# EAGLE library part LPC1768 (library MyLib)
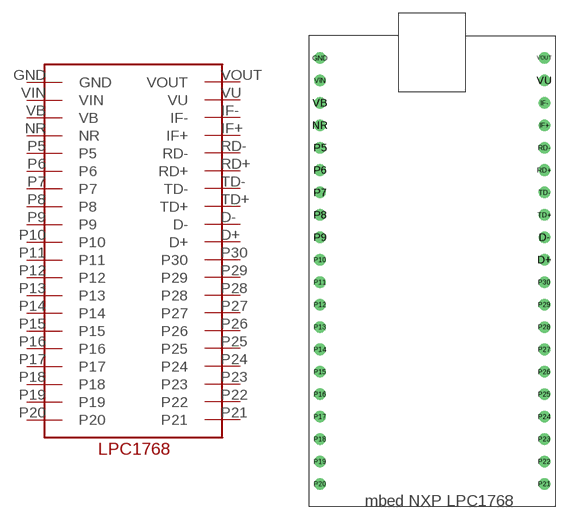
[diagram p4: symbol with the pads of LPC1768; footprint LPC1768]

Designator prefix -

## LPC1768  [LPC1768]
D+  D+
D-  D-
GND  GND
IF+  IF+
IF-  IF-
NR  NR
P5  P5
P6  P6
P7  P7
P8  P8
P9  P9
P10  P10
P11  P11
P12  P12
P13  P13
P14  P14
P15  P15
P16  P16
P17  P17
P18  P18
P19  P19
P20  P20
P21  P21
P22  P22
P23  P23
P24  P24
P25  P25
P26  P26
P27  P27
P28  P28
P29  P29
P30  P30
RD+  RD+
RD-  RD-
TD+  TD+
TD-  TD-
VB  VB
VIN  VIN
VOUT  VOUT
VU  VU

## Footprint LPC1768 (pad centres in mm)
drill 0.8: D+ 12.7,1.27; D- 12.7,3.81; GND -12.7,24.13; IF+ 12.7,16.51; IF- 12.7,19.05; NR -12.7,16.51; P5 -12.7,13.97; P6 -12.7,11.43; P7 -12.7,8.89; P8 -12.7,6.35; P9 -12.7,3.81; P10 -12.7,1.27; P11 -12.7,-1.27; P12 -12.7,-3.81; P13 -12.7,-6.35; P14 -12.7,-8.89; P15 -12.7,-11.43; P16 -12.7,-13.97; P17 -12.7,-16.51; P18 -12.7,-19.05; P19 -12.7,-21.59; P20 -12.7,-24.13; P21 12.7,-24.13; P22 12.7,-21.59; P23 12.7,-19.05; P24 12.7,-16.51; P25 12.7,-13.97; P26 12.7,-11.43; P27 12.7,-8.89; P28 12.7,-6.35; P29 12.7,-3.81; P30 12.7,-1.27; RD+ 12.7,11.43; RD- 12.7,13.97; TD+ 12.7,6.35; TD- 12.7,8.89; VB -12.7,19.05; VIN -12.7,21.59; VOUT 12.7,24.13; VU 12.7,21.59